# EAGLE library part QSH-060-01-X-D-A (library con-samtec-qsh)
RECEPTACAL
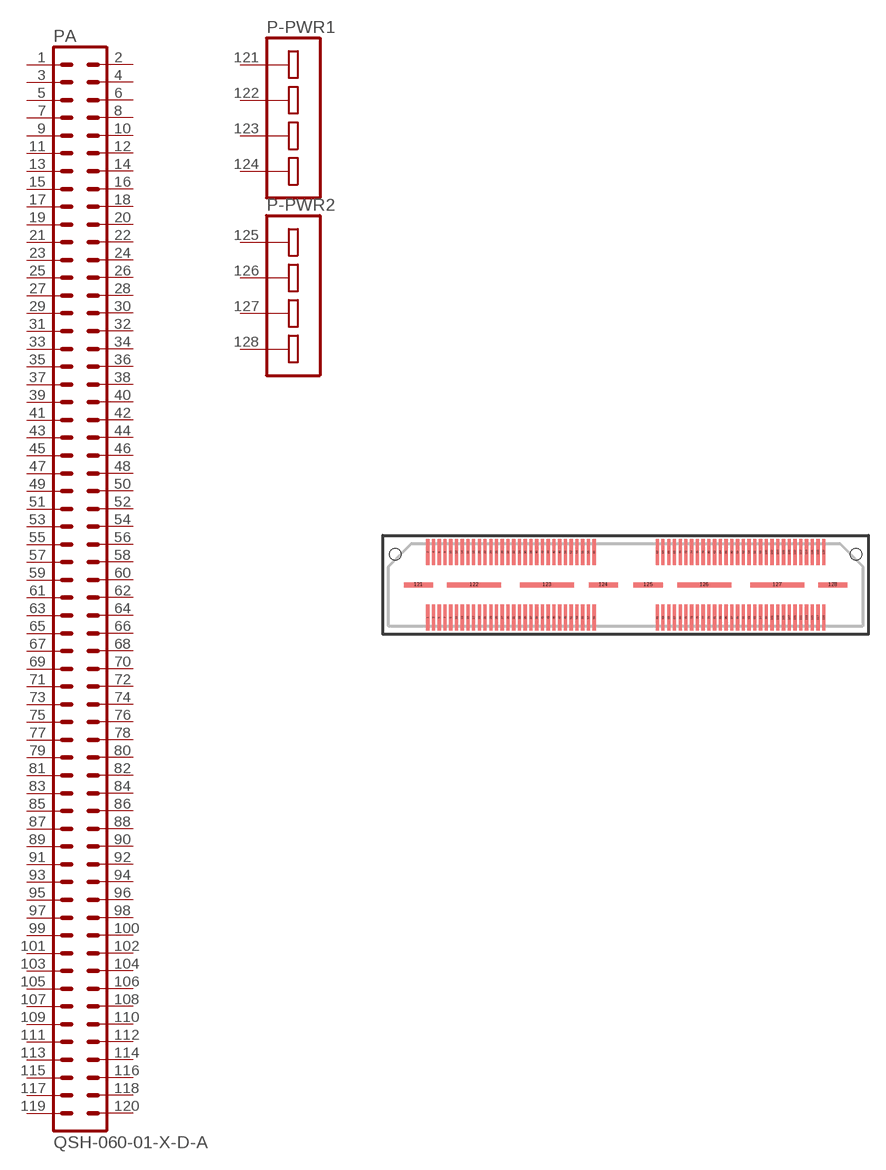
[diagram p1: symbol with the pads of QSH-060-01-X-D-A; footprint QSH-060-01-X-D-A]

Designator prefix P; gates -PWR1=PB-4 -PWR2=PB-4 A=MA60-2

## QSH-060-01-X-D-A  [QSH-060-01-X-D-A]
1  A:1  pas
2  A:2  pas
3  A:3  pas
4  A:4  pas
5  A:5  pas
6  A:6  pas
7  A:7  pas
8  A:8  pas
9  A:9  pas
10  A:10  pas
11  A:11  pas
12  A:12  pas
13  A:13  pas
14  A:14  pas
15  A:15  pas
16  A:16  pas
17  A:17  pas
18  A:18  pas
19  A:19  pas
20  A:20  pas
21  A:21  pas
22  A:22  pas
23  A:23  pas
24  A:24  pas
25  A:25  pas
26  A:26  pas
27  A:27  pas
28  A:28  pas
29  A:29  pas
30  A:30  pas
31  A:31  pas
32  A:32  pas
33  A:33  pas
34  A:34  pas
35  A:35  pas
36  A:36  pas
37  A:37  pas
38  A:38  pas
39  A:39  pas
40  A:40  pas
41  A:41  pas
42  A:42  pas
43  A:43  pas
44  A:44  pas
45  A:45  pas
46  A:46  pas
47  A:47  pas
48  A:48  pas
49  A:49  pas
50  A:50  pas
51  A:51  pas
52  A:52  pas
53  A:53  pas
54  A:54  pas
55  A:55  pas
56  A:56  pas
57  A:57  pas
58  A:58  pas
59  A:59  pas
60  A:60  pas
61  A:61  pas
62  A:62  pas
63  A:63  pas
64  A:64  pas
65  A:65  pas
66  A:66  pas
67  A:67  pas
68  A:68  pas
69  A:69  pas
70  A:70  pas
71  A:71  pas
72  A:72  pas
73  A:73  pas
74  A:74  pas
75  A:75  pas
76  A:76  pas
77  A:77  pas
78  A:78  pas
79  A:79  pas
80  A:80  pas
81  A:81  pas
82  A:82  pas
83  A:83  pas
84  A:84  pas
85  A:85  pas
86  A:86  pas
87  A:87  pas
88  A:88  pas
89  A:89  pas
90  A:90  pas
91  A:91  pas
92  A:92  pas
93  A:93  pas
94  A:94  pas
95  A:95  pas
96  A:96  pas
97  A:97  pas
98  A:98  pas
99  A:99  pas
100  A:100  pas
101  A:101  pas
102  A:102  pas
103  A:103  pas
104  A:104  pas
105  A:105  pas
106  A:106  pas
107  A:107  pas
108  A:108  pas
109  A:109  pas
110  A:110  pas
111  A:111  pas
112  A:112  pas
113  A:113  pas
114  A:114  pas
115  A:115  pas
116  A:116  pas
117  A:117  pas
118  A:118  pas
119  A:119  pas
120  A:120  pas
121  -PWR1:1  pas
122  -PWR1:2  pas
123  -PWR1:3  pas
124  -PWR1:4  pas
125  -PWR2:1  pas
126  -PWR2:2  pas
127  -PWR2:3  pas
128  -PWR2:4  pas

## Footprint QSH-060-01-X-D-A (pad centres in mm)
HIGH SPEED SOCKET STRIP 0.5mm PITCH, 60 PINS PER ROW
smd 0.28 x 2.27: 1 -17.25,-2.85; 2 -17.25,2.85; 3 -16.75,-2.85; 4 -16.75,2.85; 5 -16.25,-2.85; 6 -16.25,2.85; 7 -15.75,-2.85; 8 -15.75,2.85; 9 -15.25,-2.85; 10 -15.25,2.85; 11 -14.75,-2.85; 12 -14.75,2.85; 13 -14.25,-2.85; 14 -14.25,2.85; 15 -13.75,-2.85; 16 -13.75,2.85; 17 -13.25,-2.85; 18 -13.25,2.85; 19 -12.75,-2.85; 20 -12.75,2.85; 21 -12.25,-2.85; 22 -12.25,2.85; 23 -11.75,-2.85; 24 -11.75,2.85; 25 -11.25,-2.85; 26 -11.25,2.85; 27 -10.75,-2.85; 28 -10.75,2.85; 29 -10.25,-2.85; 30 -10.25,2.85; 31 -9.75,-2.85; 32 -9.75,2.85; 33 -9.25,-2.85; 34 -9.25,2.85; 35 -8.75,-2.85; 36 -8.75,2.85; 37 -8.25,-2.85; 38 -8.25,2.85; 39 -7.75,-2.85; 40 -7.75,2.85; 41 -7.25,-2.85; 42 -7.25,2.85; 43 -6.75,-2.85; 44 -6.75,2.85; 45 -6.25,-2.85; 46 -6.25,2.85; 47 -5.75,-2.85; 48 -5.75,2.85; 49 -5.25,-2.85; 50 -5.25,2.85; 51 -4.75,-2.85; 52 -4.75,2.85; 53 -4.25,-2.85; 54 -4.25,2.85; 55 -3.75,-2.85; 56 -3.75,2.85; 57 -3.25,-2.85; 58 -3.25,2.85; 59 -2.75,-2.85; 60 -2.75,2.85; 61 2.75,-2.85; 62 2.75,2.85; 63 3.25,-2.85; 64 3.25,2.85; 65 3.75,-2.85; 66 3.75,2.85; 67 4.25,-2.85; 68 4.25,2.85; 69 4.75,-2.85; 70 4.75,2.85; 71 5.25,-2.85; 72 5.25,2.85; 73 5.75,-2.85; 74 5.75,2.85; 75 6.25,-2.85; 76 6.25,2.85; 77 6.75,-2.85; 78 6.75,2.85; 79 7.25,-2.85; 80 7.25,2.85; 81 7.75,-2.85; 82 7.75,2.85; 83 8.25,-2.85; 84 8.25,2.85; 85 8.75,-2.85; 86 8.75,2.85; 87 9.25,-2.85; 88 9.25,2.85; 89 9.75,-2.85; 90 9.75,2.85; 91 10.25,-2.85; 92 10.25,2.85; 93 10.75,-2.85; 94 10.75,2.85; 95 11.25,-2.85; 96 11.25,2.85; 97 11.75,-2.85; 98 11.75,2.85; 99 12.25,-2.85; 100 12.25,2.85; 101 12.75,-2.85; 102 12.75,2.85; 103 13.25,-2.85; 104 13.25,2.85; 105 13.75,-2.85; 106 13.75,2.85; 107 14.25,-2.85; 108 14.25,2.85; 109 14.75,-2.85; 110 14.75,2.85; 111 15.25,-2.85; 112 15.25,2.85; 113 15.75,-2.85; 114 15.75,2.85; 115 16.25,-2.85; 116 16.25,2.85; 117 16.75,-2.85; 118 16.75,2.85; 119 17.25,-2.85; 120 17.25,2.85
smd 2.54 x 0.432: 121 -18.05,0; 124 -1.95,0; 125 1.95,0; 128 18.05,0
smd 4.699 x 0.432: 122 -13.2,0; 123 -6.85,0; 126 6.85,0; 127 13.2,0
hole 1.016 at -20.066,2.667
hole 1.016 at 20.066,2.667